# Altium footprint library 拨码开关.PcbLib: 31 footprints (part 2 of 2)
Each footprint in its own frame and in the unit in brackets; x right, y up, seen from the top. Pads: shape width x height; smd on the part's side, far side on the other; paste and mask are expansions set on the pad; w line width, h text height; cw(c..) or ccw(c..) is an arc to the next point about the centre after c.
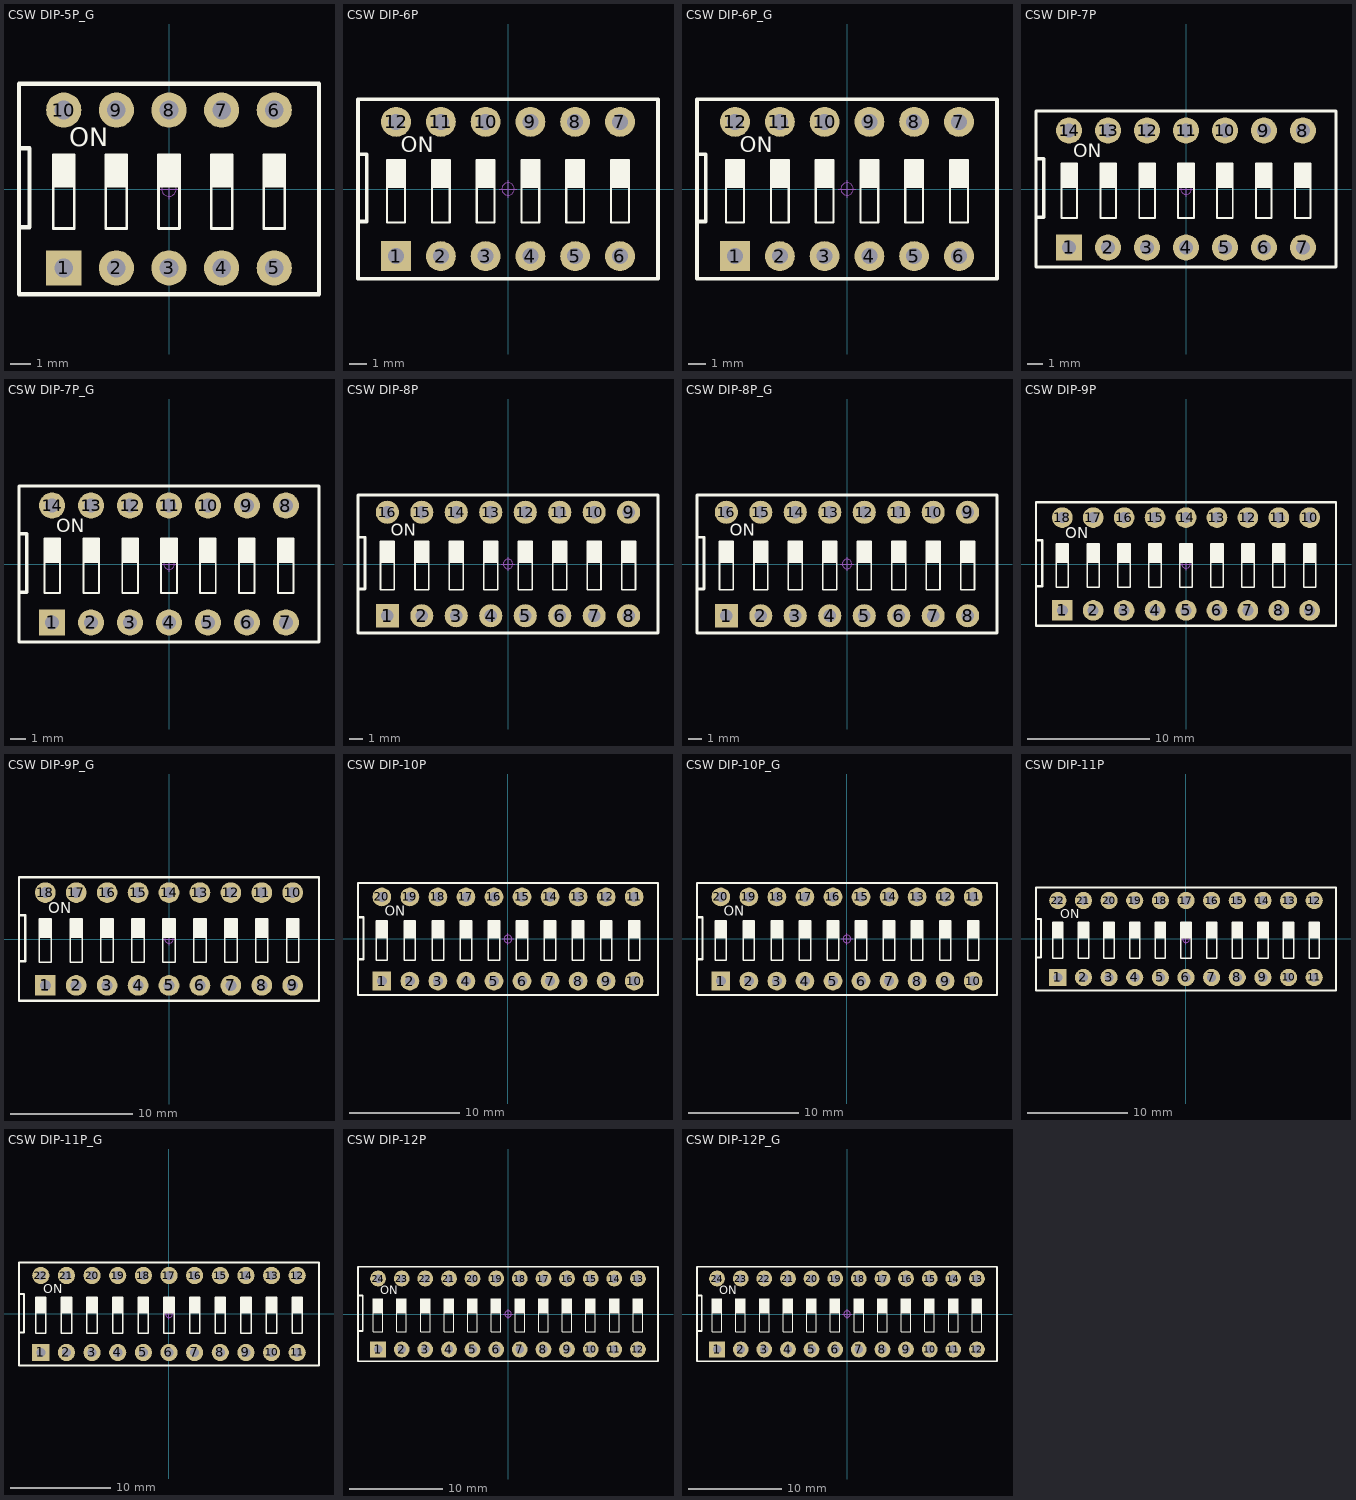
[diagram p1: the footprints below, top view; thin cyan lines are the x and y axes]

## CSW DIP-5P_G [mm] "14.2*9.9*7mm"
pads (10):
  rect 1.7x1.7 hole 0.9: 1(-5.08,-3.81)
  round 1.7 hole 0.9: 2(-2.54,-3.81) 3(0,-3.81) 4(2.54,-3.81) 5(5.08,-3.81) 6(5.08,3.81) 7(2.54,3.81) 8(0,3.81) 9(-2.54,3.81) 10(-5.08,3.81)
Top Overlay:
  rectangle: -5.588,0.127 -4.572,1.651
  rectangle: -3.048,0.127 -2.032,1.651
  rectangle: -0.508,0.127 0.508,1.651
  rectangle: 2.032,0.127 3.048,1.651
  rectangle: 4.572,0.127 5.588,1.651
  lines w0.127: -5.588,0.127 -4.572,0.127 ; -3.048,0.127 -2.032,0.127 ; -0.508,0.127 0.508,0.127 ; 2.032,0.127 3.048,0.127 ; 4.572,0.127 5.588,0.127 ; -5.588,-1.905 -5.588,1.651 -4.572,1.651 -4.572,-1.905 -5.588,-1.905 ; -3.048,-1.905 -3.048,1.651 -2.032,1.651 -2.032,-1.905 -3.048,-1.905 ; -0.508,-1.905 -0.508,1.651 0.508,1.651 0.508,-1.905 -0.508,-1.905 ; 2.032,-1.905 2.032,1.651 3.048,1.651 3.048,-1.905 2.032,-1.905 ; 4.572,-1.905 4.572,1.651 5.588,1.651 5.588,-1.905 4.572,-1.905
  lines w0.2: -7.239,-5.08 -7.239,5.08 7.239,5.08 7.239,-5.08 -7.239,-5.08
  lines w0.203: -7.239,-1.841 -6.731,-1.841 -6.731,1.968 -7.239,1.968
  text "ON" at -4.826,1.778 h1.52
Mechanical 15:
  circle w0.05: c0,0 r0.35
  lines w0.05: -0.5,0 0.5,0 ; 0,-0.5 0,0.5
3D body "CSW DIP-5P_G.STEP": height 6.65, standoff -3.15, extent -7.13,-4.95 7.13,4.95

## CSW DIP-6P [mm] "16.8*9.9*7mm"
pads (12):
  rect 1.7x1.7 hole 0.9: 1(-6.35,-3.81)
  round 1.7 hole 0.9: 2(-3.81,-3.81) 3(-1.27,-3.81) 4(1.27,-3.81) 5(3.81,-3.81) 6(6.35,-3.81) 7(6.35,3.81) 8(3.81,3.81) 9(1.27,3.81) 10(-1.27,3.81) 11(-3.81,3.81) 12(-6.35,3.81)
Top Overlay:
  rectangle: -6.858,0.127 -5.842,1.651
  rectangle: -4.318,0.127 -3.302,1.651
  rectangle: -1.778,0.127 -0.762,1.651
  rectangle: 0.762,0.127 1.778,1.651
  rectangle: 3.302,0.127 4.318,1.651
  rectangle: 5.842,0.127 6.858,1.651
  lines w0.127: -6.858,0.127 -5.842,0.127 ; -4.318,0.127 -3.302,0.127 ; -1.778,0.127 -0.762,0.127 ; 0.762,0.127 1.778,0.127 ; 3.302,0.127 4.318,0.127 ; 5.842,0.127 6.858,0.127 ; -6.858,-1.905 -6.858,1.651 -5.842,1.651 -5.842,-1.905 -6.858,-1.905 ; -4.318,-1.905 -4.318,1.651 -3.302,1.651 -3.302,-1.905 -4.318,-1.905 ; -1.778,-1.905 -1.778,1.651 -0.762,1.651 -0.762,-1.905 -1.778,-1.905 ; 0.762,-1.905 0.762,1.651 1.778,1.651 1.778,-1.905 0.762,-1.905 ; 3.302,-1.905 3.302,1.651 4.318,1.651 4.318,-1.905 3.302,-1.905 ; 5.842,-1.905 5.842,1.651 6.858,1.651 6.858,-1.905 5.842,-1.905
  lines w0.2: -8.509,-5.08 -8.509,5.08 8.509,5.08 8.509,-5.08 -8.509,-5.08
  lines w0.203: -8.509,-1.841 -8.001,-1.841 -8.001,1.968 -8.509,1.968
  text "ON" at -6.096,1.778 h1.52
Mechanical 15:
  circle w0.05: c0,0 r0.35
  lines w0.05: -0.5,0 0.5,0 ; 0,-0.5 0,0.5
3D body "CSW DIP-6P.STEP": height 6.65, standoff -3.15, extent -8.4,-4.95 8.4,4.95

## CSW DIP-6P_G [mm] "16.8*9.9*7mm"
pads (12):
  rect 1.7x1.7 hole 0.9: 1(-6.35,-3.81)
  round 1.7 hole 0.9: 2(-3.81,-3.81) 3(-1.27,-3.81) 4(1.27,-3.81) 5(3.81,-3.81) 6(6.35,-3.81) 7(6.35,3.81) 8(3.81,3.81) 9(1.27,3.81) 10(-1.27,3.81) 11(-3.81,3.81) 12(-6.35,3.81)
Top Overlay:
  rectangle: 5.842,0.127 6.858,1.651
  rectangle: 3.302,0.127 4.318,1.651
  rectangle: 0.762,0.127 1.778,1.651
  rectangle: -1.778,0.127 -0.762,1.651
  rectangle: -4.318,0.127 -3.302,1.651
  rectangle: -6.858,0.127 -5.842,1.651
  lines w0.127: -6.858,0.127 -5.842,0.127 ; -4.318,0.127 -3.302,0.127 ; -1.778,0.127 -0.762,0.127 ; 0.762,0.127 1.778,0.127 ; 3.302,0.127 4.318,0.127 ; 5.842,0.127 6.858,0.127 ; -6.858,-1.905 -5.842,-1.905 -5.842,1.651 -6.858,1.651 -6.858,-1.905 ; -4.318,-1.905 -3.302,-1.905 -3.302,1.651 -4.318,1.651 -4.318,-1.905 ; -1.778,-1.905 -0.762,-1.905 -0.762,1.651 -1.778,1.651 -1.778,-1.905 ; 0.762,-1.905 1.778,-1.905 1.778,1.651 0.762,1.651 0.762,-1.905 ; 3.302,-1.905 4.318,-1.905 4.318,1.651 3.302,1.651 3.302,-1.905 ; 5.842,-1.905 6.858,-1.905 6.858,1.651 5.842,1.651 5.842,-1.905
  lines w0.2: -8.509,-5.08 8.509,-5.08 8.509,5.08 -8.509,5.08 -8.509,-5.08
  lines w0.203: -8.509,-1.841 -8.001,-1.841 -8.001,1.968 -8.509,1.968
  text "ON" at -6.096,1.778 h1.52
Mechanical 15:
  circle w0.05: c0,0 r0.35
  lines w0.05: -0.5,0 0.5,0 ; 0,-0.5 0,0.5
3D body "CSW DIP-6P_G.STEP": height 6.65, standoff -3.15, extent -8.4,-4.95 8.4,4.95

## CSW DIP-7P [mm] "19.3*9.9*7mm"
pads (14):
  rect 1.7x1.7 hole 0.9: 1(-7.62,-3.81)
  round 1.7 hole 0.9: 2(-5.08,-3.81) 3(-2.54,-3.81) 4(0,-3.81) 5(2.54,-3.81) 6(5.08,-3.81) 7(7.62,-3.81) 8(7.62,3.81) 9(5.08,3.81) 10(2.54,3.81) 11(0,3.81) 12(-2.54,3.81) 13(-5.08,3.81) 14(-7.62,3.81)
Top Overlay:
  rectangle: 4.572,0.127 5.588,1.651
  rectangle: 2.032,0.127 3.048,1.651
  rectangle: -0.508,0.127 0.508,1.651
  rectangle: -3.048,0.127 -2.032,1.651
  rectangle: -5.588,0.127 -4.572,1.651
  rectangle: -8.128,0.127 -7.112,1.651
  rectangle: 7.112,0.127 8.128,1.651
  lines w0.127: -8.128,0.127 -7.112,0.127 ; -5.588,0.127 -4.572,0.127 ; -3.048,0.127 -2.032,0.127 ; -0.508,0.127 0.508,0.127 ; 2.032,0.127 3.048,0.127 ; 4.572,0.127 5.588,0.127 ; 7.112,0.127 8.128,0.127 ; -8.128,-1.905 -7.112,-1.905 -7.112,1.651 -8.128,1.651 -8.128,-1.905 ; -5.588,-1.905 -4.572,-1.905 -4.572,1.651 -5.588,1.651 -5.588,-1.905 ; -3.048,-1.905 -2.032,-1.905 -2.032,1.651 -3.048,1.651 -3.048,-1.905 ; -0.508,-1.905 0.508,-1.905 0.508,1.651 -0.508,1.651 -0.508,-1.905 ; 2.032,-1.905 3.048,-1.905 3.048,1.651 2.032,1.651 2.032,-1.905 ; 4.572,-1.905 5.588,-1.905 5.588,1.651 4.572,1.651 4.572,-1.905 ; 7.112,-1.905 7.112,1.651 8.128,1.651 8.128,-1.905 7.112,-1.905
  lines w0.2: -9.779,-5.08 9.779,-5.08 9.779,5.08 -9.779,5.08 -9.779,-5.08
  lines w0.203: -9.779,-1.841 -9.271,-1.841 -9.271,1.968 -9.779,1.968
  text "ON" at -7.366,1.778 h1.52
Mechanical 15:
  circle w0.05: c0,0 r0.35
  lines w0.05: -0.5,0 0.5,0 ; 0,-0.5 0,0.5
3D body "CSW DIP-7P.STEP": height 6.65, standoff -3.15, extent -9.67,-4.95 9.67,4.95

## CSW DIP-7P_G [mm] "19.3*9.9*7mm"
pads (14):
  rect 1.7x1.7 hole 0.9: 1(-7.62,-3.81)
  round 1.7 hole 0.9: 2(-5.08,-3.81) 3(-2.54,-3.81) 4(0,-3.81) 5(2.54,-3.81) 6(5.08,-3.81) 7(7.62,-3.81) 8(7.62,3.81) 9(5.08,3.81) 10(2.54,3.81) 11(0,3.81) 12(-2.54,3.81) 13(-5.08,3.81) 14(-7.62,3.81)
Top Overlay:
  rectangle: 4.572,0.127 5.588,1.651
  rectangle: 2.032,0.127 3.048,1.651
  rectangle: -0.508,0.127 0.508,1.651
  rectangle: -3.048,0.127 -2.032,1.651
  rectangle: -5.588,0.127 -4.572,1.651
  rectangle: -8.128,0.127 -7.112,1.651
  rectangle: 7.112,0.127 8.128,1.651
  lines w0.127: -8.128,0.127 -7.112,0.127 ; -5.588,0.127 -4.572,0.127 ; -3.048,0.127 -2.032,0.127 ; -0.508,0.127 0.508,0.127 ; 2.032,0.127 3.048,0.127 ; 4.572,0.127 5.588,0.127 ; 7.112,0.127 8.128,0.127 ; -8.128,-1.905 -7.112,-1.905 -7.112,1.651 -8.128,1.651 -8.128,-1.905 ; -5.588,-1.905 -4.572,-1.905 -4.572,1.651 -5.588,1.651 -5.588,-1.905 ; -3.048,-1.905 -2.032,-1.905 -2.032,1.651 -3.048,1.651 -3.048,-1.905 ; -0.508,-1.905 0.508,-1.905 0.508,1.651 -0.508,1.651 -0.508,-1.905 ; 2.032,-1.905 3.048,-1.905 3.048,1.651 2.032,1.651 2.032,-1.905 ; 4.572,-1.905 5.588,-1.905 5.588,1.651 4.572,1.651 4.572,-1.905 ; 7.112,-1.905 7.112,1.651 8.128,1.651 8.128,-1.905 7.112,-1.905
  lines w0.2: -9.779,-5.08 9.779,-5.08 9.779,5.08 -9.779,5.08 -9.779,-5.08
  lines w0.203: -9.779,-1.841 -9.271,-1.841 -9.271,1.968 -9.779,1.968
  text "ON" at -7.366,1.778 h1.52
Mechanical 15:
  circle w0.05: c0,0 r0.35
  lines w0.05: -0.5,0 0.5,0 ; 0,-0.5 0,0.5
3D body "CSW DIP-7P_G.STEP": height 6.65, standoff -3.15, extent -9.67,-4.95 9.67,4.95

## CSW DIP-8P [mm] "21.9*9.9*7mm"
pads (16):
  rect 1.7x1.7 hole 0.9: 1(-8.89,-3.81)
  round 1.7 hole 0.9: 2(-6.35,-3.81) 3(-3.81,-3.81) 4(-1.27,-3.81) 5(1.27,-3.81) 6(3.81,-3.81) 7(6.35,-3.81) 8(8.89,-3.81) 9(8.89,3.81) 10(6.35,3.81) 11(3.81,3.81) 12(1.27,3.81) 13(-1.27,3.81) 14(-3.81,3.81) 15(-6.35,3.81) 16(-8.89,3.81)
Top Overlay:
  rectangle: 5.842,0.127 6.858,1.651
  rectangle: -9.398,0.127 -8.382,1.651
  rectangle: -6.858,0.127 -5.842,1.651
  rectangle: -4.318,0.127 -3.302,1.651
  rectangle: -1.778,0.127 -0.762,1.651
  rectangle: 0.762,0.127 1.778,1.651
  rectangle: 3.302,0.127 4.318,1.651
  rectangle: 8.382,0.127 9.398,1.651
  lines w0.127: -9.398,0.127 -8.382,0.127 ; -6.858,0.127 -5.842,0.127 ; -4.318,0.127 -3.302,0.127 ; -1.778,0.127 -0.762,0.127 ; 0.762,0.127 1.778,0.127 ; 3.302,0.127 4.318,0.127 ; 5.842,0.127 6.858,0.127 ; 8.382,0.127 9.398,0.127 ; -9.398,-1.905 -9.398,1.651 -8.382,1.651 -8.382,-1.905 -9.398,-1.905 ; -6.858,-1.905 -6.858,1.651 -5.842,1.651 -5.842,-1.905 -6.858,-1.905 ; -4.318,-1.905 -4.318,1.651 -3.302,1.651 -3.302,-1.905 -4.318,-1.905 ; -1.778,-1.905 -1.778,1.651 -0.762,1.651 -0.762,-1.905 -1.778,-1.905 ; 0.762,-1.905 0.762,1.651 1.778,1.651 1.778,-1.905 0.762,-1.905 ; 3.302,-1.905 3.302,1.651 4.318,1.651 4.318,-1.905 3.302,-1.905 ; 5.842,-1.905 6.858,-1.905 6.858,1.651 5.842,1.651 5.842,-1.905 ; 8.382,-1.905 8.382,1.651 9.398,1.651 9.398,-1.905 8.382,-1.905
  lines w0.2: -11.049,-5.08 -11.049,5.08 11.049,5.08 11.049,-5.08 -11.049,-5.08
  lines w0.203: -11.049,-1.841 -10.541,-1.841 -10.541,1.968 -11.049,1.968
  text "ON" at -8.636,1.778 h1.52
Mechanical 15:
  circle w0.05: c0,0 r0.35
  lines w0.05: -0.5,0 0.5,0 ; 0,-0.5 0,0.5
3D body "CSW DIP-8P.STEP": height 6.65, standoff -3.15, extent -10.94,-4.95 10.94,4.95

## CSW DIP-8P_G [mm] "21.9*9.9*7mm"
pads (16):
  rect 1.7x1.7 hole 0.9: 1(-8.89,-3.81)
  round 1.7 hole 0.9: 2(-6.35,-3.81) 3(-3.81,-3.81) 4(-1.27,-3.81) 5(1.27,-3.81) 6(3.81,-3.81) 7(6.35,-3.81) 8(8.89,-3.81) 9(8.89,3.81) 10(6.35,3.81) 11(3.81,3.81) 12(1.27,3.81) 13(-1.27,3.81) 14(-3.81,3.81) 15(-6.35,3.81) 16(-8.89,3.81)
Top Overlay:
  rectangle: 5.842,0.127 6.858,1.651
  rectangle: -9.398,0.127 -8.382,1.651
  rectangle: -6.858,0.127 -5.842,1.651
  rectangle: -4.318,0.127 -3.302,1.651
  rectangle: -1.778,0.127 -0.762,1.651
  rectangle: 0.762,0.127 1.778,1.651
  rectangle: 3.302,0.127 4.318,1.651
  rectangle: 8.382,0.127 9.398,1.651
  lines w0.127: -9.398,0.127 -8.382,0.127 ; -6.858,0.127 -5.842,0.127 ; -4.318,0.127 -3.302,0.127 ; -1.778,0.127 -0.762,0.127 ; 0.762,0.127 1.778,0.127 ; 3.302,0.127 4.318,0.127 ; 5.842,0.127 6.858,0.127 ; 8.382,0.127 9.398,0.127 ; -9.398,-1.905 -9.398,1.651 -8.382,1.651 -8.382,-1.905 -9.398,-1.905 ; -6.858,-1.905 -6.858,1.651 -5.842,1.651 -5.842,-1.905 -6.858,-1.905 ; -4.318,-1.905 -4.318,1.651 -3.302,1.651 -3.302,-1.905 -4.318,-1.905 ; -1.778,-1.905 -1.778,1.651 -0.762,1.651 -0.762,-1.905 -1.778,-1.905 ; 0.762,-1.905 0.762,1.651 1.778,1.651 1.778,-1.905 0.762,-1.905 ; 3.302,-1.905 3.302,1.651 4.318,1.651 4.318,-1.905 3.302,-1.905 ; 5.842,-1.905 6.858,-1.905 6.858,1.651 5.842,1.651 5.842,-1.905 ; 8.382,-1.905 8.382,1.651 9.398,1.651 9.398,-1.905 8.382,-1.905
  lines w0.2: -11.049,-5.08 -11.049,5.08 11.049,5.08 11.049,-5.08 -11.049,-5.08
  lines w0.203: -11.049,-1.841 -10.541,-1.841 -10.541,1.968 -11.049,1.968
  text "ON" at -8.636,1.778 h1.52
Mechanical 15:
  circle w0.05: c0,0 r0.35
  lines w0.05: -0.5,0 0.5,0 ; 0,-0.5 0,0.5
3D body "CSW DIP-8P_G.STEP": height 6.65, standoff -3.15, extent -10.94,-4.95 10.94,4.95

## CSW DIP-9P [mm] "21.4*9.9*7mm"
pads (18):
  rect 1.7x1.7 hole 0.9: 1(-10.16,-3.81)
  round 1.7 hole 0.9: 2(-7.62,-3.81) 3(-5.08,-3.81) 4(-2.54,-3.81) 5(0,-3.81) 6(2.54,-3.81) 7(5.08,-3.81) 8(7.62,-3.81) 9(10.16,-3.81) 10(10.16,3.81) 11(7.62,3.81) 12(5.08,3.81) 13(2.54,3.81) 14(0,3.81) 15(-2.54,3.81) 16(-5.08,3.81) 17(-7.62,3.81) 18(-10.16,3.81)
Top Overlay:
  rectangle: 9.652,0.127 10.668,1.651
  rectangle: 4.572,0.127 5.588,1.651
  rectangle: -10.668,0.127 -9.652,1.651
  rectangle: -8.128,0.127 -7.112,1.651
  rectangle: -5.588,0.127 -4.572,1.651
  rectangle: -3.048,0.127 -2.032,1.651
  rectangle: -0.508,0.127 0.508,1.651
  rectangle: 2.032,0.127 3.048,1.651
  rectangle: 7.112,0.127 8.128,1.651
  lines w0.127: -10.668,0.127 -9.652,0.127 ; -8.128,0.127 -7.112,0.127 ; -5.588,0.127 -4.572,0.127 ; -3.048,0.127 -2.032,0.127 ; -0.508,0.127 0.508,0.127 ; 2.032,0.127 3.048,0.127 ; 4.572,0.127 5.588,0.127 ; 7.112,0.127 8.128,0.127 ; 9.652,0.127 10.668,0.127 ; -10.668,-1.905 -10.668,1.651 -9.652,1.651 -9.652,-1.905 -10.668,-1.905 ; -8.128,-1.905 -8.128,1.651 -7.112,1.651 -7.112,-1.905 -8.128,-1.905 ; -5.588,-1.905 -5.588,1.651 -4.572,1.651 -4.572,-1.905 -5.588,-1.905 ; -3.048,-1.905 -3.048,1.651 -2.032,1.651 -2.032,-1.905 -3.048,-1.905 ; -0.508,-1.905 -0.508,1.651 0.508,1.651 0.508,-1.905 -0.508,-1.905 ; 2.032,-1.905 2.032,1.651 3.048,1.651 3.048,-1.905 2.032,-1.905 ; 4.572,-1.905 5.588,-1.905 5.588,1.651 4.572,1.651 4.572,-1.905 ; 7.112,-1.905 7.112,1.651 8.128,1.651 8.128,-1.905 7.112,-1.905 ; 9.652,-1.905 10.668,-1.905 10.668,1.651 9.652,1.651 9.652,-1.905
  lines w0.2: -12.319,-5.08 -12.319,5.08 12.319,5.08 12.319,-5.08 -12.319,-5.08
  lines w0.203: -12.319,-1.841 -11.811,-1.841 -11.811,1.968 -12.319,1.968
  text "ON" at -9.906,1.778 h1.52
Mechanical 15:
  circle w0.05: c0,0 r0.35
  lines w0.05: -0.5,0 0.5,0 ; 0,-0.5 0,0.5
3D body "CSW DIP-9P.STEP": height 6.65, standoff -3.15, extent -12.21,-4.95 12.21,4.95

## CSW DIP-9P_G [mm] "21.4*9.9*7mm"
pads (18):
  rect 1.7x1.7 hole 0.9: 1(-10.16,-3.81)
  round 1.7 hole 0.9: 2(-7.62,-3.81) 3(-5.08,-3.81) 4(-2.54,-3.81) 5(0,-3.81) 6(2.54,-3.81) 7(5.08,-3.81) 8(7.62,-3.81) 9(10.16,-3.81) 10(10.16,3.81) 11(7.62,3.81) 12(5.08,3.81) 13(2.54,3.81) 14(0,3.81) 15(-2.54,3.81) 16(-5.08,3.81) 17(-7.62,3.81) 18(-10.16,3.81)
Top Overlay:
  rectangle: 9.652,0.127 10.668,1.651
  rectangle: 4.572,0.127 5.588,1.651
  rectangle: -10.668,0.127 -9.652,1.651
  rectangle: -8.128,0.127 -7.112,1.651
  rectangle: -5.588,0.127 -4.572,1.651
  rectangle: -3.048,0.127 -2.032,1.651
  rectangle: -0.508,0.127 0.508,1.651
  rectangle: 2.032,0.127 3.048,1.651
  rectangle: 7.112,0.127 8.128,1.651
  lines w0.127: -10.668,0.127 -9.652,0.127 ; -8.128,0.127 -7.112,0.127 ; -5.588,0.127 -4.572,0.127 ; -3.048,0.127 -2.032,0.127 ; -0.508,0.127 0.508,0.127 ; 2.032,0.127 3.048,0.127 ; 4.572,0.127 5.588,0.127 ; 7.112,0.127 8.128,0.127 ; 9.652,0.127 10.668,0.127 ; -10.668,-1.905 -10.668,1.651 -9.652,1.651 -9.652,-1.905 -10.668,-1.905 ; -8.128,-1.905 -8.128,1.651 -7.112,1.651 -7.112,-1.905 -8.128,-1.905 ; -5.588,-1.905 -5.588,1.651 -4.572,1.651 -4.572,-1.905 -5.588,-1.905 ; -3.048,-1.905 -3.048,1.651 -2.032,1.651 -2.032,-1.905 -3.048,-1.905 ; -0.508,-1.905 -0.508,1.651 0.508,1.651 0.508,-1.905 -0.508,-1.905 ; 2.032,-1.905 2.032,1.651 3.048,1.651 3.048,-1.905 2.032,-1.905 ; 4.572,-1.905 5.588,-1.905 5.588,1.651 4.572,1.651 4.572,-1.905 ; 7.112,-1.905 7.112,1.651 8.128,1.651 8.128,-1.905 7.112,-1.905 ; 9.652,-1.905 10.668,-1.905 10.668,1.651 9.652,1.651 9.652,-1.905
  lines w0.2: -12.319,-5.08 -12.319,5.08 12.319,5.08 12.319,-5.08 -12.319,-5.08
  lines w0.203: -12.319,-1.841 -11.811,-1.841 -11.811,1.968 -12.319,1.968
  text "ON" at -9.906,1.778 h1.52
Mechanical 15:
  circle w0.05: c0,0 r0.35
  lines w0.05: -0.5,0 0.5,0 ; 0,-0.5 0,0.5
3D body "CSW DIP-9P_G.STEP": height 6.65, standoff -3.15, extent -12.21,-4.95 12.21,4.95

## CSW DIP-10P [mm] "27*9.9*7mm"
pads (20):
  rect 1.7x1.7 hole 0.9: 1(-11.43,-3.81)
  round 1.7 hole 0.9: 2(-8.89,-3.81) 3(-6.35,-3.81) 4(-3.81,-3.81) 5(-1.27,-3.81) 6(1.27,-3.81) 7(3.81,-3.81) 8(6.35,-3.81) 9(8.89,-3.81) 10(11.43,-3.81) 11(11.43,3.81) 12(8.89,3.81) 13(6.35,3.81) 14(3.81,3.81) 15(1.27,3.81) 16(-1.27,3.81) 17(-3.81,3.81) 18(-6.35,3.81) 19(-8.89,3.81) 20(-11.43,3.81)
Top Overlay:
  rectangle: 5.842,0.127 6.858,1.651
  rectangle: 0.762,0.127 1.778,1.651
  rectangle: -1.778,0.127 -0.762,1.651
  rectangle: -4.318,0.127 -3.302,1.651
  rectangle: -6.858,0.127 -5.842,1.651
  rectangle: -9.398,0.127 -8.382,1.651
  rectangle: -11.938,0.127 -10.922,1.651
  rectangle: 3.302,0.127 4.318,1.651
  rectangle: 8.382,0.127 9.398,1.651
  rectangle: 10.922,0.127 11.938,1.651
  lines w0.127: -11.938,0.127 -10.922,0.127 ; -9.398,0.127 -8.382,0.127 ; -6.858,0.127 -5.842,0.127 ; -4.318,0.127 -3.302,0.127 ; -1.778,0.127 -0.762,0.127 ; 0.762,0.127 1.778,0.127 ; 3.302,0.127 4.318,0.127 ; 5.842,0.127 6.858,0.127 ; 8.382,0.127 9.398,0.127 ; 10.922,0.127 11.938,0.127 ; -11.938,-1.905 -10.922,-1.905 -10.922,1.651 -11.938,1.651 -11.938,-1.905 ; -9.398,-1.905 -8.382,-1.905 -8.382,1.651 -9.398,1.651 -9.398,-1.905 ; -6.858,-1.905 -5.842,-1.905 -5.842,1.651 -6.858,1.651 -6.858,-1.905 ; -4.318,-1.905 -3.302,-1.905 -3.302,1.651 -4.318,1.651 -4.318,-1.905 ; -1.778,-1.905 -0.762,-1.905 -0.762,1.651 -1.778,1.651 -1.778,-1.905 ; 0.762,-1.905 1.778,-1.905 1.778,1.651 0.762,1.651 0.762,-1.905 ; 3.302,-1.905 3.302,1.651 4.318,1.651 4.318,-1.905 3.302,-1.905 ; 5.842,-1.905 6.858,-1.905 6.858,1.651 5.842,1.651 5.842,-1.905 ; 8.382,-1.905 8.382,1.651 9.398,1.651 9.398,-1.905 8.382,-1.905 ; 10.922,-1.905 11.938,-1.905 11.938,1.651 10.922,1.651 10.922,-1.905
  lines w0.2: -13.589,-5.08 13.589,-5.08 13.589,5.08 -13.589,5.08 -13.589,-5.08
  lines w0.203: -13.589,-1.841 -13.081,-1.841 -13.081,1.968 -13.589,1.968
  text "ON" at -11.176,1.778 h1.52
Mechanical 15:
  circle w0.05: c0,0 r0.35
  lines w0.05: -0.5,0 0.5,0 ; 0,-0.5 0,0.5
3D body "CSW DIP-10P.STEP": height 6.65, standoff -3.15, extent -13.48,-4.95 13.48,4.95

## CSW DIP-10P_G [mm] "27*9.9*7mm"
pads (20):
  rect 1.7x1.7 hole 0.9: 1(-11.43,-3.81)
  round 1.7 hole 0.9: 2(-8.89,-3.81) 3(-6.35,-3.81) 4(-3.81,-3.81) 5(-1.27,-3.81) 6(1.27,-3.81) 7(3.81,-3.81) 8(6.35,-3.81) 9(8.89,-3.81) 10(11.43,-3.81) 11(11.43,3.81) 12(8.89,3.81) 13(6.35,3.81) 14(3.81,3.81) 15(1.27,3.81) 16(-1.27,3.81) 17(-3.81,3.81) 18(-6.35,3.81) 19(-8.89,3.81) 20(-11.43,3.81)
Top Overlay:
  rectangle: 10.922,0.127 11.938,1.651
  rectangle: 8.382,0.127 9.398,1.651
  rectangle: 3.302,0.127 4.318,1.651
  rectangle: -11.938,0.127 -10.922,1.651
  rectangle: -9.398,0.127 -8.382,1.651
  rectangle: -6.858,0.127 -5.842,1.651
  rectangle: -4.318,0.127 -3.302,1.651
  rectangle: -1.778,0.127 -0.762,1.651
  rectangle: 0.762,0.127 1.778,1.651
  rectangle: 5.842,0.127 6.858,1.651
  lines w0.127: -11.938,0.127 -10.922,0.127 ; -9.398,0.127 -8.382,0.127 ; -6.858,0.127 -5.842,0.127 ; -4.318,0.127 -3.302,0.127 ; -1.778,0.127 -0.762,0.127 ; 0.762,0.127 1.778,0.127 ; 3.302,0.127 4.318,0.127 ; 5.842,0.127 6.858,0.127 ; 8.382,0.127 9.398,0.127 ; 10.922,0.127 11.938,0.127 ; -11.938,-1.905 -11.938,1.651 -10.922,1.651 -10.922,-1.905 -11.938,-1.905 ; -9.398,-1.905 -9.398,1.651 -8.382,1.651 -8.382,-1.905 -9.398,-1.905 ; -6.858,-1.905 -6.858,1.651 -5.842,1.651 -5.842,-1.905 -6.858,-1.905 ; -4.318,-1.905 -4.318,1.651 -3.302,1.651 -3.302,-1.905 -4.318,-1.905 ; -1.778,-1.905 -1.778,1.651 -0.762,1.651 -0.762,-1.905 -1.778,-1.905 ; 0.762,-1.905 0.762,1.651 1.778,1.651 1.778,-1.905 0.762,-1.905 ; 3.302,-1.905 4.318,-1.905 4.318,1.651 3.302,1.651 3.302,-1.905 ; 5.842,-1.905 5.842,1.651 6.858,1.651 6.858,-1.905 5.842,-1.905 ; 8.382,-1.905 9.398,-1.905 9.398,1.651 8.382,1.651 8.382,-1.905 ; 10.922,-1.905 10.922,1.651 11.938,1.651 11.938,-1.905 10.922,-1.905
  lines w0.2: -13.589,-5.08 -13.589,5.08 13.589,5.08 13.589,-5.08 -13.589,-5.08
  lines w0.203: -13.589,-1.841 -13.081,-1.841 -13.081,1.968 -13.589,1.968
  text "ON" at -11.176,1.778 h1.52
Mechanical 15:
  circle w0.05: c0,0 r0.35
  lines w0.05: -0.5,0 0.5,0 ; 0,-0.5 0,0.5
3D body "CSW DIP-10P_G.STEP": height 6.65, standoff -3.15, extent -13.48,-4.95 13.48,4.95

## CSW DIP-11P [mm] "29.5*9.9*7mm"
pads (22):
  rect 1.7x1.7 hole 0.9: 1(-12.7,-3.81)
  round 1.7 hole 0.9: 2(-10.16,-3.81) 3(-7.62,-3.81) 4(-5.08,-3.81) 5(-2.54,-3.81) 6(0,-3.81) 7(2.54,-3.81) 8(5.08,-3.81) 9(7.62,-3.81) 10(10.16,-3.81) 11(12.7,-3.81) 12(12.7,3.81) 13(10.16,3.81) 14(7.62,3.81) 15(5.08,3.81) 16(2.54,3.81) 17(0,3.81) 18(-2.54,3.81) 19(-5.08,3.81) 20(-7.62,3.81) 21(-10.16,3.81) 22(-12.7,3.81)
Top Overlay:
  rectangle: 9.652,0.127 10.668,1.651
  rectangle: 7.112,0.127 8.128,1.651
  rectangle: 2.032,0.127 3.048,1.651
  rectangle: -13.208,0.127 -12.192,1.651
  rectangle: -10.668,0.127 -9.652,1.651
  rectangle: -8.128,0.127 -7.112,1.651
  rectangle: -5.588,0.127 -4.572,1.651
  rectangle: -3.048,0.127 -2.032,1.651
  rectangle: -0.508,0.127 0.508,1.651
  rectangle: 4.572,0.127 5.588,1.651
  rectangle: 12.192,0.127 13.208,1.651
  lines w0.127: -13.208,0.127 -12.192,0.127 ; -10.668,0.127 -9.652,0.127 ; -8.128,0.127 -7.112,0.127 ; -5.588,0.127 -4.572,0.127 ; -3.048,0.127 -2.032,0.127 ; -0.508,0.127 0.508,0.127 ; 2.032,0.127 3.048,0.127 ; 4.572,0.127 5.588,0.127 ; 7.112,0.127 8.128,0.127 ; 9.652,0.127 10.668,0.127 ; 12.192,0.127 13.208,0.127 ; -13.208,-1.905 -13.208,1.651 -12.192,1.651 -12.192,-1.905 -13.208,-1.905 ; -10.668,-1.905 -10.668,1.651 -9.652,1.651 -9.652,-1.905 -10.668,-1.905 ; -8.128,-1.905 -8.128,1.651 -7.112,1.651 -7.112,-1.905 -8.128,-1.905 ; -5.588,-1.905 -5.588,1.651 -4.572,1.651 -4.572,-1.905 -5.588,-1.905 ; -3.048,-1.905 -3.048,1.651 -2.032,1.651 -2.032,-1.905 -3.048,-1.905 ; -0.508,-1.905 -0.508,1.651 0.508,1.651 0.508,-1.905 -0.508,-1.905 ; 2.032,-1.905 3.048,-1.905 3.048,1.651 2.032,1.651 2.032,-1.905 ; 4.572,-1.905 4.572,1.651 5.588,1.651 5.588,-1.905 4.572,-1.905 ; 7.112,-1.905 8.128,-1.905 8.128,1.651 7.112,1.651 7.112,-1.905 ; 9.652,-1.905 9.652,1.651 10.668,1.651 10.668,-1.905 9.652,-1.905 ; 12.192,-1.905 13.208,-1.905 13.208,1.651 12.192,1.651 12.192,-1.905
  lines w0.2: -14.859,-5.08 -14.859,5.08 14.859,5.08 14.859,-5.08 -14.859,-5.08
  lines w0.203: -14.859,-1.841 -14.351,-1.841 -14.351,1.968 -14.859,1.968
  text "ON" at -12.446,1.778 h1.52
Mechanical 15:
  circle w0.05: c0,0 r0.35
  lines w0.05: -0.5,0 0.5,0 ; 0,-0.5 0,0.5
3D body "CSW DIP-11P.STEP": height 6.65, standoff -3.15, extent -14.75,-4.95 14.75,4.95

## CSW DIP-11P_G [mm] "29.5*9.9*7mm"
pads (22):
  rect 1.7x1.7 hole 0.9: 1(-12.7,-3.81)
  round 1.7 hole 0.9: 2(-10.16,-3.81) 3(-7.62,-3.81) 4(-5.08,-3.81) 5(-2.54,-3.81) 6(0,-3.81) 7(2.54,-3.81) 8(5.08,-3.81) 9(7.62,-3.81) 10(10.16,-3.81) 11(12.7,-3.81) 12(12.7,3.81) 13(10.16,3.81) 14(7.62,3.81) 15(5.08,3.81) 16(2.54,3.81) 17(0,3.81) 18(-2.54,3.81) 19(-5.08,3.81) 20(-7.62,3.81) 21(-10.16,3.81) 22(-12.7,3.81)
Top Overlay:
  rectangle: 9.652,0.127 10.668,1.651
  rectangle: 7.112,0.127 8.128,1.651
  rectangle: 2.032,0.127 3.048,1.651
  rectangle: -13.208,0.127 -12.192,1.651
  rectangle: -10.668,0.127 -9.652,1.651
  rectangle: -8.128,0.127 -7.112,1.651
  rectangle: -5.588,0.127 -4.572,1.651
  rectangle: -3.048,0.127 -2.032,1.651
  rectangle: -0.508,0.127 0.508,1.651
  rectangle: 4.572,0.127 5.588,1.651
  rectangle: 12.192,0.127 13.208,1.651
  lines w0.127: -13.208,0.127 -12.192,0.127 ; -10.668,0.127 -9.652,0.127 ; -8.128,0.127 -7.112,0.127 ; -5.588,0.127 -4.572,0.127 ; -3.048,0.127 -2.032,0.127 ; -0.508,0.127 0.508,0.127 ; 2.032,0.127 3.048,0.127 ; 4.572,0.127 5.588,0.127 ; 7.112,0.127 8.128,0.127 ; 9.652,0.127 10.668,0.127 ; 12.192,0.127 13.208,0.127 ; -13.208,-1.905 -13.208,1.651 -12.192,1.651 -12.192,-1.905 -13.208,-1.905 ; -10.668,-1.905 -10.668,1.651 -9.652,1.651 -9.652,-1.905 -10.668,-1.905 ; -8.128,-1.905 -8.128,1.651 -7.112,1.651 -7.112,-1.905 -8.128,-1.905 ; -5.588,-1.905 -5.588,1.651 -4.572,1.651 -4.572,-1.905 -5.588,-1.905 ; -3.048,-1.905 -3.048,1.651 -2.032,1.651 -2.032,-1.905 -3.048,-1.905 ; -0.508,-1.905 -0.508,1.651 0.508,1.651 0.508,-1.905 -0.508,-1.905 ; 2.032,-1.905 3.048,-1.905 3.048,1.651 2.032,1.651 2.032,-1.905 ; 4.572,-1.905 4.572,1.651 5.588,1.651 5.588,-1.905 4.572,-1.905 ; 7.112,-1.905 8.128,-1.905 8.128,1.651 7.112,1.651 7.112,-1.905 ; 9.652,-1.905 9.652,1.651 10.668,1.651 10.668,-1.905 9.652,-1.905 ; 12.192,-1.905 13.208,-1.905 13.208,1.651 12.192,1.651 12.192,-1.905
  lines w0.2: -14.859,-5.08 -14.859,5.08 14.859,5.08 14.859,-5.08 -14.859,-5.08
  lines w0.203: -14.859,-1.841 -14.351,-1.841 -14.351,1.968 -14.859,1.968
  text "ON" at -12.446,1.778 h1.52
Mechanical 15:
  circle w0.05: c0,0 r0.35
  lines w0.05: -0.5,0 0.5,0 ; 0,-0.5 0,0.5
3D body "CSW DIP-11P_G.STEP": height 6.65, standoff -3.15, extent -14.75,-4.95 14.75,4.95

## CSW DIP-12P [mm] "32.1*9.9*7mm"
pads (24):
  rect 1.7x1.7 hole 0.9: 1(-13.97,-3.81)
  round 1.7 hole 0.9: 2(-11.43,-3.81) 3(-8.89,-3.81) 4(-6.35,-3.81) 5(-3.81,-3.81) 6(-1.27,-3.81) 7(1.27,-3.81) 8(3.81,-3.81) 9(6.35,-3.81) 10(8.89,-3.81) 11(11.43,-3.81) 12(13.97,-3.81) 13(13.97,3.81) 14(11.43,3.81) 15(8.89,3.81) 16(6.35,3.81) 17(3.81,3.81) 18(1.27,3.81) 19(-1.27,3.81) 20(-3.81,3.81) 21(-6.35,3.81) 22(-8.89,3.81) 23(-11.43,3.81) 24(-13.97,3.81)
Top Overlay:
  rectangle: 8.382,0.127 9.398,1.651
  rectangle: 5.842,0.127 6.858,1.651
  rectangle: 0.762,0.127 1.778,1.651
  rectangle: -14.478,0.127 -13.462,1.651
  rectangle: -11.938,0.127 -10.922,1.651
  rectangle: -9.398,0.127 -8.382,1.651
  rectangle: -6.858,0.127 -5.842,1.651
  rectangle: -4.318,0.127 -3.302,1.651
  rectangle: -1.778,0.127 -0.762,1.651
  rectangle: 3.302,0.127 4.318,1.651
  rectangle: 10.922,0.127 11.938,1.651
  rectangle: 13.462,0.127 14.478,1.651
  lines w0.127: -14.478,0.127 -13.462,0.127 ; -11.938,0.127 -10.922,0.127 ; -9.398,0.127 -8.382,0.127 ; -6.858,0.127 -5.842,0.127 ; -4.318,0.127 -3.302,0.127 ; -1.778,0.127 -0.762,0.127 ; 0.762,0.127 1.778,0.127 ; 3.302,0.127 4.318,0.127 ; 5.842,0.127 6.858,0.127 ; 8.382,0.127 9.398,0.127 ; 10.922,0.127 11.938,0.127 ; 13.462,0.127 14.478,0.127 ; -14.478,-1.905 -14.478,1.651 -13.462,1.651 -13.462,-1.905 -14.478,-1.905 ; -11.938,-1.905 -11.938,1.651 -10.922,1.651 -10.922,-1.905 -11.938,-1.905 ; -9.398,-1.905 -9.398,1.651 -8.382,1.651 -8.382,-1.905 -9.398,-1.905 ; -6.858,-1.905 -6.858,1.651 -5.842,1.651 -5.842,-1.905 -6.858,-1.905 ; -4.318,-1.905 -4.318,1.651 -3.302,1.651 -3.302,-1.905 -4.318,-1.905 ; -1.778,-1.905 -1.778,1.651 -0.762,1.651 -0.762,-1.905 -1.778,-1.905 ; 0.762,-1.905 1.778,-1.905 1.778,1.651 0.762,1.651 0.762,-1.905 ; 3.302,-1.905 3.302,1.651 4.318,1.651 4.318,-1.905 3.302,-1.905 ; 5.842,-1.905 6.858,-1.905 6.858,1.651 5.842,1.651 5.842,-1.905 ; 8.382,-1.905 8.382,1.651 9.398,1.651 9.398,-1.905 8.382,-1.905 ; 10.922,-1.905 10.922,1.651 11.938,1.651 11.938,-1.905 10.922,-1.905 ; 13.462,-1.905 14.478,-1.905 14.478,1.651 13.462,1.651 13.462,-1.905
  lines w0.2: -16.129,-5.08 -16.129,5.08 16.129,5.08 16.129,-5.08 -16.129,-5.08
  lines w0.203: -16.129,-1.841 -15.621,-1.841 -15.621,1.968 -16.129,1.968
  text "ON" at -13.716,1.778 h1.52
Mechanical 15:
  circle w0.05: c0,0 r0.35
  lines w0.05: -0.5,0 0.5,0 ; 0,-0.5 0,0.5
3D body "CSW DIP-12P.STEP": height 6.65, standoff -3.15, extent -16.02,-4.95 16.02,4.95

## CSW DIP-12P_G [mm] "32.1*9.9*7mm"
pads (24):
  rect 1.7x1.7 hole 0.9: 1(-13.97,-3.81)
  round 1.7 hole 0.9: 2(-11.43,-3.81) 3(-8.89,-3.81) 4(-6.35,-3.81) 5(-3.81,-3.81) 6(-1.27,-3.81) 7(1.27,-3.81) 8(3.81,-3.81) 9(6.35,-3.81) 10(8.89,-3.81) 11(11.43,-3.81) 12(13.97,-3.81) 13(13.97,3.81) 14(11.43,3.81) 15(8.89,3.81) 16(6.35,3.81) 17(3.81,3.81) 18(1.27,3.81) 19(-1.27,3.81) 20(-3.81,3.81) 21(-6.35,3.81) 22(-8.89,3.81) 23(-11.43,3.81) 24(-13.97,3.81)
Top Overlay:
  rectangle: 8.382,0.127 9.398,1.651
  rectangle: 5.842,0.127 6.858,1.651
  rectangle: 0.762,0.127 1.778,1.651
  rectangle: -14.478,0.127 -13.462,1.651
  rectangle: -11.938,0.127 -10.922,1.651
  rectangle: -9.398,0.127 -8.382,1.651
  rectangle: -6.858,0.127 -5.842,1.651
  rectangle: -4.318,0.127 -3.302,1.651
  rectangle: -1.778,0.127 -0.762,1.651
  rectangle: 3.302,0.127 4.318,1.651
  rectangle: 10.922,0.127 11.938,1.651
  rectangle: 13.462,0.127 14.478,1.651
  lines w0.127: -14.478,0.127 -13.462,0.127 ; -11.938,0.127 -10.922,0.127 ; -9.398,0.127 -8.382,0.127 ; -6.858,0.127 -5.842,0.127 ; -4.318,0.127 -3.302,0.127 ; -1.778,0.127 -0.762,0.127 ; 0.762,0.127 1.778,0.127 ; 3.302,0.127 4.318,0.127 ; 5.842,0.127 6.858,0.127 ; 8.382,0.127 9.398,0.127 ; 10.922,0.127 11.938,0.127 ; 13.462,0.127 14.478,0.127 ; -14.478,-1.905 -14.478,1.651 -13.462,1.651 -13.462,-1.905 -14.478,-1.905 ; -11.938,-1.905 -11.938,1.651 -10.922,1.651 -10.922,-1.905 -11.938,-1.905 ; -9.398,-1.905 -9.398,1.651 -8.382,1.651 -8.382,-1.905 -9.398,-1.905 ; -6.858,-1.905 -6.858,1.651 -5.842,1.651 -5.842,-1.905 -6.858,-1.905 ; -4.318,-1.905 -4.318,1.651 -3.302,1.651 -3.302,-1.905 -4.318,-1.905 ; -1.778,-1.905 -1.778,1.651 -0.762,1.651 -0.762,-1.905 -1.778,-1.905 ; 0.762,-1.905 1.778,-1.905 1.778,1.651 0.762,1.651 0.762,-1.905 ; 3.302,-1.905 3.302,1.651 4.318,1.651 4.318,-1.905 3.302,-1.905 ; 5.842,-1.905 6.858,-1.905 6.858,1.651 5.842,1.651 5.842,-1.905 ; 8.382,-1.905 8.382,1.651 9.398,1.651 9.398,-1.905 8.382,-1.905 ; 10.922,-1.905 10.922,1.651 11.938,1.651 11.938,-1.905 10.922,-1.905 ; 13.462,-1.905 14.478,-1.905 14.478,1.651 13.462,1.651 13.462,-1.905
  lines w0.2: -16.129,-5.08 -16.129,5.08 16.129,5.08 16.129,-5.08 -16.129,-5.08
  lines w0.203: -16.129,-1.841 -15.621,-1.841 -15.621,1.968 -16.129,1.968
  text "ON" at -13.716,1.778 h1.52
Mechanical 15:
  circle w0.05: c0,0 r0.35
  lines w0.05: -0.5,0 0.5,0 ; 0,-0.5 0,0.5
3D body "CSW DIP-12P_G.STEP": height 6.65, standoff -3.15, extent -16.02,-4.95 16.02,4.95